# Altium schematic symbol library LM2576T-ADJ.SchLib: 1 symbol
Pins are listed as number, name and electrical type; pins without a type are passive.

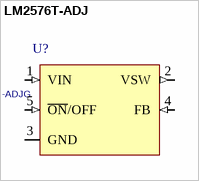
[diagram p0: symbol LM2576T-ADJ]

## LM2576T-ADJ
designator U?, comment LM2576T-ADJG
PDF: *; ID: LM2576T-ADJG; PRICE: 4,25 z³; BUY_LINK: http://www.tme.eu/pl/details/lm2576t-adjg/regulatory-napiecia-uklady-dc-dc/on-semiconductor/#t9bb860ebc26c35588d2ca4b171e4e8bf
footprint TO-220-5
pins: 1 VIN (in), 2 VSW (out), 3 GND (power), 4 FB (in), 5 ~{ON}/OFF (in)